# EAGLE library part TANTOS-0G (library Traficon)
CT (03/03/2008): renamed segments of the component
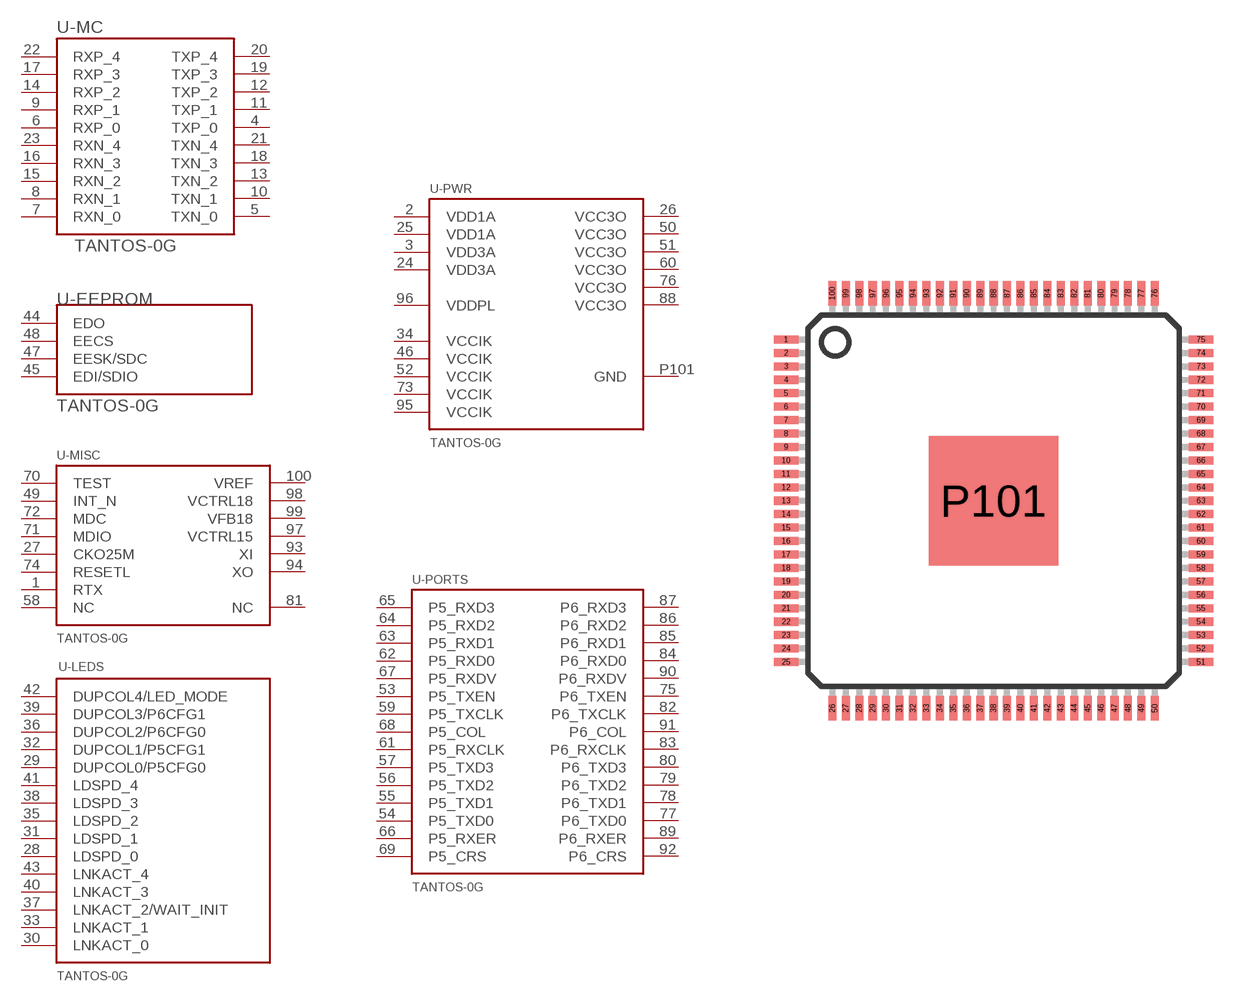
[diagram p148: symbol with the pads of PG-LQFP100-4; footprint PG-LQFP100-4]

Designator prefix U; gates -EEPROM=TANTOS-0G-EEPROM -MISC=TANTOS-0G-MISC -PORTS=TANTOS-0G-MII-PORTS -MC=TANTOS-0G-MC -LEDS=TANTOS-0G-LEDS -PWR=TANTOS-0G-PWR

## TANTOS-0G  [PG-LQFP100-4]
1  -MISC:RTX  in
2  -PWR:VDD1A  pwr
3  -PWR:VDD3A  pwr
4  -MC:TXP_0
5  -MC:TXN_0
6  -MC:RXP_0
7  -MC:RXN_0
8  -MC:RXN_1
9  -MC:RXP_1
10  -MC:TXN_1
11  -MC:TXP_1
12  -MC:TXP_2
13  -MC:TXN_2
14  -MC:RXP_2
15  -MC:RXN_2
16  -MC:RXN_3
17  -MC:RXP_3
18  -MC:TXN_3
19  -MC:TXP_3
20  -MC:TXP_4
21  -MC:TXN_4
22  -MC:RXP_4
23  -MC:RXN_4
24  -PWR:VDD3A  pwr
25  -PWR:VDD1A  pwr
26  -PWR:VCC3O  pwr
27  -MISC:CKO25M  out
28  -LEDS:LDSPD_0  out
29  -LEDS:DUPCOL0/P5CFG0
30  -LEDS:LNKACT_0  out
31  -LEDS:LDSPD_1  out
32  -LEDS:DUPCOL1/P5CFG1
33  -LEDS:LNKACT_1  out
34  -PWR:VCCIK  pwr
35  -LEDS:LDSPD_2  out
36  -LEDS:DUPCOL2/P6CFG0
37  -LEDS:LNKACT_2/WAIT_INIT  out
38  -LEDS:LDSPD_3  out
39  -LEDS:DUPCOL3/P6CFG1
40  -LEDS:LNKACT_3  out
41  -LEDS:LDSPD_4  out
42  -LEDS:DUPCOL4/LED_MODE
43  -LEDS:LNKACT_4  out
44  -EEPROM:EDO  in
45  -EEPROM:EDI/SDIO
46  -PWR:VCCIK  pwr
47  -EEPROM:EESK/SDC
48  -EEPROM:EECS  out
49  -MISC:INT_N  out
50  -PWR:VCC3O  pwr
51  -PWR:VCC3O  pwr
52  -PWR:VCCIK  pwr
53  -PORTS:P5_TXEN  out
54  -PORTS:P5_TXD0  out
55  -PORTS:P5_TXD1  out
56  -PORTS:P5_TXD2  out
57  -PORTS:P5_TXD3  out
58  -MISC:NC  nc
59  -PORTS:P5_TXCLK  in
60  -PWR:VCC3O  pwr
61  -PORTS:P5_RXCLK  in
62  -PORTS:P5_RXD0  in
63  -PORTS:P5_RXD1  in
64  -PORTS:P5_RXD2  in
65  -PORTS:P5_RXD3  in
66  -PORTS:P5_RXER  in
67  -PORTS:P5_RXDV  in
68  -PORTS:P5_COL  in
69  -PORTS:P5_CRS  in
70  -MISC:TEST  in
71  -MISC:MDIO
72  -MISC:MDC  out
73  -PWR:VCCIK  pwr
74  -MISC:RESETL  in
75  -PORTS:P6_TXEN  out
76  -PWR:VCC3O  pwr
77  -PORTS:P6_TXD0  out
78  -PORTS:P6_TXD1  out
79  -PORTS:P6_TXD2  out
80  -PORTS:P6_TXD3  out
81  -MISC:NC  nc
82  -PORTS:P6_TXCLK  in
83  -PORTS:P6_RXCLK  in
84  -PORTS:P6_RXD0  in
85  -PORTS:P6_RXD1  in
86  -PORTS:P6_RXD2  in
87  -PORTS:P6_RXD3  in
88  -PWR:VCC3O  pwr
89  -PORTS:P6_RXER  in
90  -PORTS:P6_RXDV  in
91  -PORTS:P6_COL  in
92  -PORTS:P6_CRS  in
93  -MISC:XI  in
94  -MISC:XO  out
95  -PWR:VCCIK  pwr
96  -PWR:VDDPL  pwr
97  -MISC:VCTRL15
98  -MISC:VCTRL18
99  -MISC:VFB18
100  -MISC:VREF  in
P101  -PWR:GND  pwr

## Footprint PG-LQFP100-4 (pad centres in mm)
smd 0.9 x 0.3: 1 -7.72,6; 2 -7.72,5.5; 3 -7.72,5; 4 -7.72,4.5; 5 -7.72,4; 6 -7.72,3.5; 7 -7.72,3; 8 -7.72,2.5; 9 -7.72,2; 10 -7.72,1.5; 11 -7.72,1; 12 -7.72,0.5; 13 -7.72,0; 14 -7.72,-0.5; 15 -7.72,-1; 16 -7.72,-1.5; 17 -7.72,-2; 18 -7.72,-2.5; 19 -7.72,-3; 20 -7.72,-3.5; 21 -7.72,-4; 22 -7.72,-4.5; 23 -7.72,-5; 24 -7.72,-5.5; 25 -7.72,-6; 51 7.72,-6; 52 7.72,-5.5; 53 7.72,-5; 54 7.72,-4.5; 55 7.72,-4; 56 7.72,-3.5; 57 7.72,-3; 58 7.72,-2.5; 59 7.72,-2; 60 7.72,-1.5; 61 7.72,-1; 62 7.72,-0.5; 63 7.72,0; 64 7.72,0.5; 65 7.72,1; 66 7.72,1.5; 67 7.72,2; 68 7.72,2.5; 69 7.72,3; 70 7.72,3.5; 71 7.72,4; 72 7.72,4.5; 73 7.72,5; 74 7.72,5.5; 75 7.72,6
smd 0.3 x 0.9: 26 -6,-7.72; 27 -5.5,-7.72; 28 -5,-7.72; 29 -4.5,-7.72; 30 -4,-7.72; 31 -3.5,-7.72; 32 -3,-7.72; 33 -2.5,-7.72; 34 -2,-7.72; 35 -1.5,-7.72; 36 -1,-7.72; 37 -0.5,-7.72; 38 0,-7.72; 39 0.5,-7.72; 40 1,-7.72; 41 1.5,-7.72; 42 2,-7.72; 43 2.5,-7.72; 44 3,-7.72; 45 3.5,-7.72; 46 4,-7.72; 47 4.5,-7.72; 48 5,-7.72; 49 5.5,-7.72; 50 6,-7.72; 76 6,7.72; 77 5.5,7.72; 78 5,7.72; 79 4.5,7.72; 80 4,7.72; 81 3.5,7.72; 82 3,7.72; 83 2.5,7.72; 84 2,7.72; 85 1.5,7.72; 86 1,7.72; 87 0.5,7.72; 88 0,7.72; 89 -0.5,7.72; 90 -1,7.72; 91 -1.5,7.72; 92 -2,7.72; 93 -2.5,7.72; 94 -3,7.72; 95 -3.5,7.72; 96 -4,7.72; 97 -4.5,7.72; 98 -5,7.72; 99 -5.5,7.72; 100 -6,7.72
smd 4.8 x 4.8: P101 0,0